# Altium integrated library MFR-25FRF52-10K.IntLib: 1 symbol
Pins are listed as number, name and electrical type; pins without a type are passive.

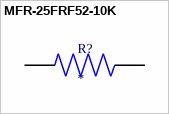
[diagram p0: symbol MFR-25FRF52-10K]

## MFR-25FRF52-10K
designator R?
10.5 kOhms Â±1% 0.25W, 1/4W Through Hole Resistor Axial - Metal Film; MF: Yageo; MP: MFR-25FRF52-10K; SnapEDA_Link: https://www.snapeda.com/parts/MFR-25FRF52-10K/Yageo/view-part/?ref=snap; Package: RADIAL-2 YAGEO; Value: *; Check_prices: https://www.snapeda.com/parts/MFR-25FRF52-10K/Yageo/view-part/?ref=eda
footprint RESAD1100W55L680D260
pins: 1, 2